# Altium footprint library Transistors.PcbLib: 3 footprints
Each footprint in its own frame and in the unit in brackets; x right, y up, seen from the top. Pads: shape width x height; smd on the part's side, far side on the other; paste and mask are expansions set on the pad; w line width, h text height; cw(c..) or ccw(c..) is an arc to the next point about the centre after c.
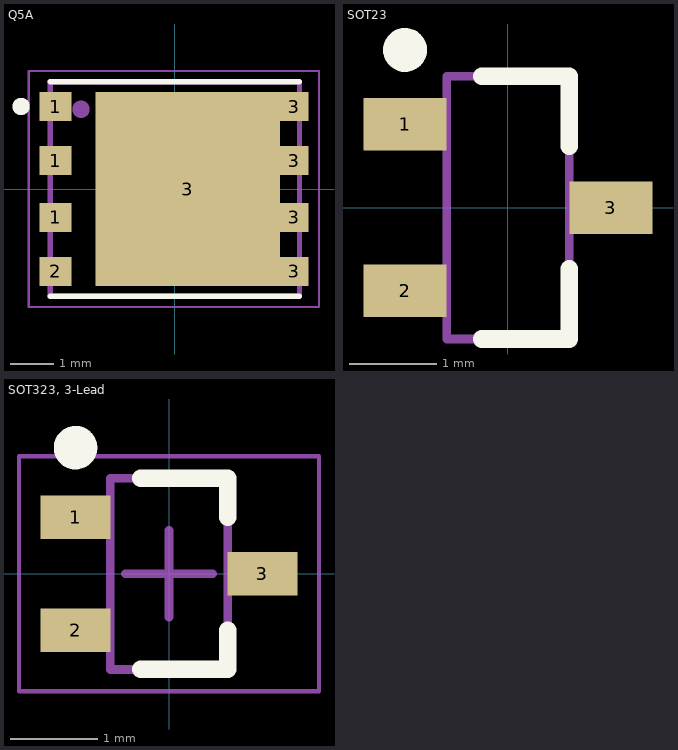
[diagram p0: the footprints below, top view; thin cyan lines are the x and y axes]

## Q5A [mm]
pads (9):
  rect 0.75x0.675 smd paste-1: 1(-2.776,-0.66) 1(-2.776,0.66) 1(-2.776,1.917) 2(-2.776,-1.917)
  rect 4.295x4.51 smd paste-3: 3(0.301,0)
  rect 0.655x0.675 smd paste-1: 3(2.776,-1.917) 3(2.776,-0.66) 3(2.776,0.66) 3(2.776,1.917)
Top Overlay:
  circle w0.3: c-3.578,1.921 r0.05
  lines w0.127: -2.9,-2.5 2.9,-2.5 ; -2.9,2.5 2.9,2.5
Top Paste:
  region: -2.526,-2.171 -3.031,-2.171 -3.031,-1.667 -2.526,-1.667
  region: -2.526,-0.91 -3.026,-0.91 -3.026,-0.41 -2.526,-0.41
  region: -2.526,0.41 -3.027,0.41 -3.027,0.91 -2.526,0.91
  region: -2.526,1.67 -3.03,1.67 -3.03,2.167 -2.526,2.167
  region: 3.026,-2.172 2.531,-2.172 2.531,-1.667 3.026,-1.667
  region: 3.026,-0.91 2.528,-0.91 2.528,-0.41 3.026,-0.41
  region: 3.026,0.41 2.528,0.41 2.528,0.91 3.026,0.91
  region: 3.026,1.668 2.527,1.668 2.527,2.167 3.026,2.167
  region: 1.911,-1.882 0.327,-1.882 0.327,-0.31 1.911,-0.31
  region: -0.174,-1.883 -1.411,-1.883 -1.411,-0.31 -0.174,-0.31
  region: 1.911,0.31 0.327,0.31 0.327,1.88 1.911,1.88
  region: -0.174,0.31 -1.409,0.31 -1.409,1.88 -0.174,1.88
Mechanical 13:
  circle w0.3: c-2.186,1.855 r0.05
  lines w0.127: -2.9,-2.5 2.9,-2.5 2.9,2.5 -2.9,2.5 -2.9,-2.5
Mechanical 15:
  lines w0.05: -3.401,-2.75 3.354,-2.75 3.354,2.75 -3.401,2.75 -3.401,-2.75

## SOT23 [mm] "SOT23, 3-Leads, Body 2.90x2.40mm, Pitch 0.95mm, IPC Medium Density"
height 1.1
pads (3):
  rect 0.95x0.6 smd: 1(-1.175,0.95) 2(-1.175,-0.95) 3(1.175,0)
Top Overlay:
  circle w0.25: c-1.175,1.8 r0.125
  lines w0.2: -0.3,-1.5 0.7,-1.5 0.7,-0.7 ; -0.3,1.5 0.7,1.5 0.7,0.7
Mechanical 13:
  lines w0.1: -0.7,-1.5 0.7,-1.5 0.7,1.5 -0.7,1.5 -0.7,-1.5
3D body: height 1.1, standoff 0.05, extent -0.7,-1.5 0.7,1.5

## SOT323, 3-Lead [mm] "SOT323, 3-Lead"
height 1.1
pads (3):
  rect 0.8x0.5 smd: 1(-1.075,0.65) 2(-1.075,-0.65) 3(1.075,0)
Top Overlay:
  circle w0.25: c-1.075,1.45 r0.125
  lines w0.2: -0.325,-1.1 0.675,-1.1 0.675,-0.65 ; -0.325,1.1 0.675,1.1 0.675,0.65
Mechanical 13:
  lines w0.1: -0.675,-1.1 0.675,-1.1 0.675,1.1 -0.675,1.1 -0.675,-1.1
Mechanical 15:
  lines w0.05: -1.725,-1.35 1.725,-1.35 1.725,1.35 -1.725,1.35 -1.725,-1.35
  lines w0.1: -0.5,0 0.5,0 ; 0,-0.5 0,0.5
3D body: height 1.1, standoff 0.15, extent -0.675,-1.1 0.675,1.1